# Altium schematic symbol library PowerPCB.SchLib: 56 symbols (part 2 of 2)
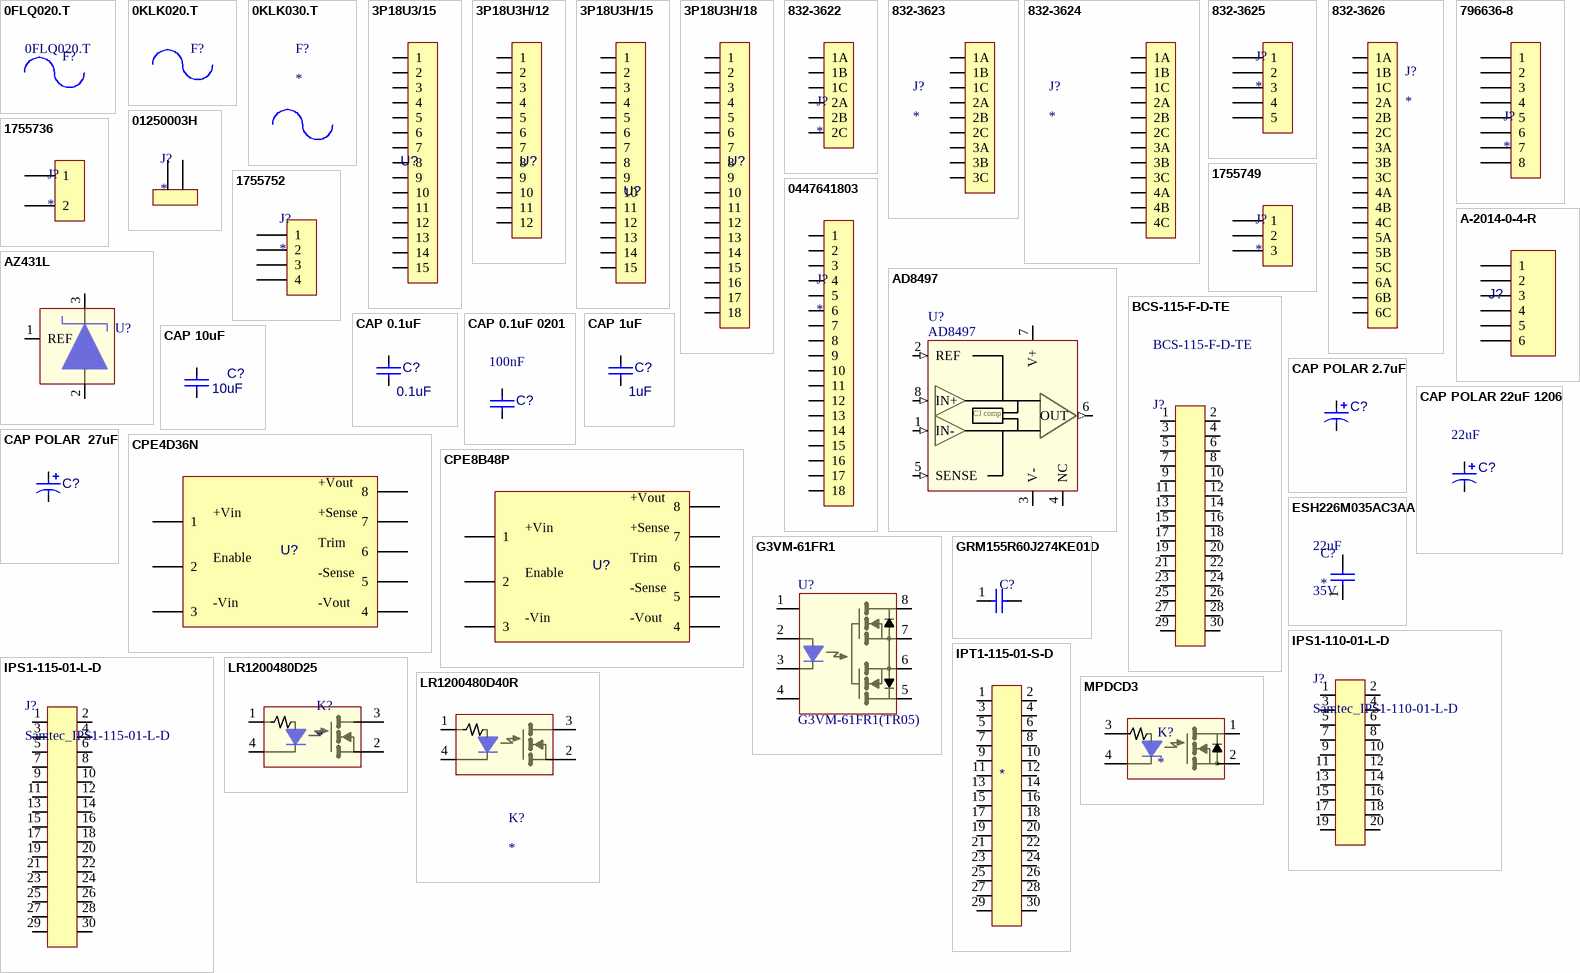
[diagram p2: symbols 0FLQ020.T to MPDCD3]

## CAP POLAR  27uF
designator C?, comment ?  (value not drawn)
CAP ALUM 27UF 20% 35V SMD; Manufacturer: Nichicon; Manufacturer Part Number: UUD1V270MCL1GS; _Verified Footprint: .mfr-pn? footprint?; _Verified Symbol: .mfr-pn?; Life (Hours): 2000Hour; Ripple Current: 230mA; Leakage Current: 9.45uA; Impedance: 440mR; _Verified BOM: .mfr-pn?; Supplier 1: Digi-Key; Supplier Part Number 1: 493-2285-1-ND; RoHS: Yes; Category: Aluminum Electrolytic Capacitors; Stock 1: 3272; Pricing 1: 1=0.43000, 10=0.30500, 25=0.26080, 100=0.20110, 250=0.17128, 500=0.14894 (USD); Case/Package: Radial; Number of Pins: 2; Min Operating Temperature: -55°C; Max Operating Temperature: 105°C; Package Quantity: 1000; Tolerance: 20%; Voltage Rating (DC): 35V; Packaging: Tape and Reel; Capacitance: 27uF; Voltage Rating: 35V; Termination: SMD/SMT; Diameter: 6.3mm; Length: 5.8mm; Height: 5.8mm; Height - Seated (Max): 0.228inch; Radiation Hardening: No; Lead Free: Lead Free; ComponentLink1URL: https://datasheet.ciiva.com/97/e-ud-97009.pdf?src-supplier=Digi-Key; ComponentLink1Description: https://datasheet.ciiva.com/97/e-ud-97009.pdf?src-supplier=Digi-Key; ComponentLink2URL: https://datasheet.ciiva.com/97/e-ud-97010.pdf?src-supplier=Digi-Key; ComponentLink2Description: https://datasheet.ciiva.com/97/e-ud-97010.pdf?src-supplier=Digi-Key; ComponentLink3URL: https://datasheet.ciiva.com/97/e-ud-97011.pdf?src-supplier=Digi-Key; ComponentLink3Description: https://datasheet.ciiva.com/97/e-ud-97011.pdf?src-supplier=Digi-Key; ComponentLink4URL: https://datasheet.ciiva.com/11686/e-ud-11686278.pdf?src-supplier=Avnet; ComponentLink4Description: https://datasheet.ciiva.com/11686/e-ud-11686278.pdf?src-supplier=Avnet; ComponentLink5URL: https://datasheet.ciiva.com/17525/e-ud-17525994.pdf?src-supplier=Avnet+Europe; ComponentLink5Description: https://datasheet.ciiva.com/17525/e-ud-17525994.pdf?src-supplier=Avnet+Europe; ComponentLink6URL: https://datasheet.ciiva.com/16513/e-ud-16513052.pdf?src-supplier=Future+Electronics; ComponentLink6Description: https://datasheet.ciiva.com/16513/e-ud-16513052.pdf?src-supplier=Future+Electronics
simulation model CAP (Capacitor)
footprint CAP_6.3X5.8
pins: 1, 2

## CPE4D36N
designator U?  (value not drawn)
Isolated Module DC DC Converter 1 Output 24V    4A 18V - 72V Input; Manufacturer: Semiconductor Circuits, Inc.; Manufacturer Part Number: CPE4D36N; Supplier 1: Digi-Key; RoHS: No; Category: Board Mount Modules; Stock 1: 37
footprint CPE4D36N (24V 4A 18-72VIN 8TH NEG ENB)
pins: 1, 2, 3, 4, 5, 6, 7, 8
text: +Vout; +Vin; +Sense; Trim; Enable; -Sense; -Vin; -Vout

## CPE8B48P
designator U?  (value not drawn)
Isolated Module DC DC Converter 1 Output 12V    8A 36V - 75V Input; Manufacturer: Semiconductor Circuits, Inc.; Manufacturer Part Number: CPE8B48P; Supplier 1: Digi-Key; RoHS: No; Category: Board Mount Modules
footprint CPE4D36N (24V 4A 18-72VIN 8TH NEG ENB)
pins: 1, 2, 3, 4, 5, 6, 7, 8
text: +Vout; +Vin; +Sense; Trim; Enable; -Sense; -Vin; -Vout

## ESH226M035AC3AA
designator C?
KEMET         ESH226M035AC3AA            Electrolytic Capacitor, ESH Series, 22 F,  20%, 35 V, 5 mm, Radial Leaded; Life (Hours): 2000Hour; Voltage Rating (DC): 35V; Capacitance: 22uF; Ripple Current: 65mA; Supplier 1: Digi-Key; Manufacturer: KEMET; Manufacturer Part Number: ESH226M035AC3AA; RoHS: Yes; Category: Aluminum Electrolytic Capacitors; Stock 1: 3655; Pricing 1: 1=0.17000, 10=0.11600, 50=0.06940, 100=0.05850, 500=0.04004, 1000=0.03542, 2500=0.03388, 5000=0.03080 (USD); Mount: Through Hole; Case/Package: Radial; Min Operating Temperature: -40°C; Max Operating Temperature: 105°C; Termination: Radial; Tolerance: 20%; Voltage Rating: 35V; Package Quantity: 10000; Packaging: Bulk; Diameter: 5mm; Height: 11mm; Height - Seated (Max): 0.492inch; Lead Pitch: 2mm; Radiation Hardening: No; REACH SVHC: No SVHC; ComponentLink1URL: https://datasheet.ciiva.com/13471/kem-a4005-esh-217634-13471568.pdf?src-supplier=Mouser; ComponentLink1Description: https://datasheet.ciiva.com/13471/kem-a4005-esh-217634-13471568.pdf?src-supplier=Mouser; ComponentLink2URL: https://datasheet.ciiva.com/22627/1794402-22627020.pdf?src-supplier=Farnell; ComponentLink2Description: https://datasheet.ciiva.com/22627/1794402-22627020.pdf?src-supplier=Farnell; Supplier Part Number 1: 399-6563-ND
pins: 1, 2

## G3VM-61FR1
designator U?  Manufacturer Part Number: G3VM-61FR1(TR05)  (hidden comment: G3VM-61FR1)
SSR RELAY SPST-NO 5A 0-60V; Manufacturer: Omron; On-State Resistance: 50mR; Throw Configuration: SPST; Isolation Voltage: 2.5kV; Supplier 1: Digi-Key; Supplier Part Number 1: Z5867CT-ND; Stock 1: 11015; Pricing 1: 1=11.91, 10=11.162, 25=9.922, 50=9.426, 100=8.9298, 250=7.9376 (USD); Mount: Surface Mount; Case/Package: SMD/SMT; Number of Pins: 8; Packaging: Tape and Reel; Load Current: 5A; Termination: Gull Wing; Relay Type: Relay
footprint G3VM-61FR1 (SSR RELAY SPST-NO 5A 0-60V)
footprint SMD_8
pins: 1 NC, 2 A, 3 K, 4 NC, 5 D2, 6 S2, 7 S1, 8 D1

## GRM155R60J274KE01D
designator C?  (value not drawn)
Cap Ceramic 0.27uF 6.3V X5R 10% SMD 0402 85Â°C Paper T/R; Manufacturer: Murata; Manufacturer Part Number: GRM155R60J274KE01D; Capacitance: 270nF; Supplier 1: Digi-Key; RoHS: Yes; Category: Ceramic Capacitors; Stock 1: 34733; Pricing 1: 1=0.18000, 10=0.12500, 50=0.07520, 100=0.06350, 500=0.04342, 1000=0.03841, 2500=0.03674, 5000=0.03340 (USD); Mount: Surface Mount; Case/Package: 0402; Case Code (Metric): 1005; Case Code (Imperial): 0402; Min Operating Temperature: -55°C; Max Operating Temperature: 85°C; Tolerance: 10%; Packaging: Tape and Reel; Voltage Rating: 6.3V; Package Quantity: 10000; Voltage Rating (DC): 6.3V; Dielectric: X5R; Termination: SMD/SMT; Length: 1mm; Height: 0.5mm; Width: 0.02inch; Thickness: 0.022inch; Depth: 0.5mm; Radiation Hardening: No; ComponentLink1URL: https://datasheet.ciiva.com/11619/product-11619074.pdf?src-supplier=Avnet; ComponentLink1Description: https://datasheet.ciiva.com/11619/product-11619074.pdf?src-supplier=Avnet; ComponentLink2URL: https://datasheet.ciiva.com/6270/partnumbering-e-01-6270597.pdf?src-supplier=Digi-Key; ComponentLink2Description: https://datasheet.ciiva.com/6270/partnumbering-e-01-6270597.pdf?src-supplier=Digi-Key; ComponentLink3URL: https://datasheet.ciiva.com/6270/partnumbering-e-01-6270582.pdf?src-supplier=Digi-Key; ComponentLink3Description: https://datasheet.ciiva.com/6270/partnumbering-e-01-6270582.pdf?src-supplier=Digi-Key; ComponentLink4URL: https://datasheet.ciiva.com/6270/partnumbering-e-01-6270583.pdf?src-supplier=Digi-Key; ComponentLink4Description: https://datasheet.ciiva.com/6270/partnumbering-e-01-6270583.pdf?src-supplier=Digi-Key; Supplier Part Number 1: 490-6291-1-ND
pins: 1, 2

## IPS1-110-01-L-D
designator J?, comment Samtec_IPS1-110-01-L-D
.100" Mini Mate® Isolated Power Connector Socket Strip; Manufacturer 1: Samtec; Number of Contacts: 20; Gender: Receptacle; Number of Ports: 1; Max Voltage Rating (AC): 550V; Current Rating: 9A; Voltage Rating: 777V; Pitch: 2.54mm; ComponentLink1URL: https://datasheet.ciiva.com/16684/eng-cs-1308389-eurostyle-terminal-blocks-0607-16684060.pdf?src-supplier=Avnet+Europe; ComponentLink1Description: https://datasheet.ciiva.com/16684/eng-cs-1308389-eurostyle-terminal-blocks-0607-16684060.pdf?src-supplier=Avnet+Europe; ComponentLink2URL: https://datasheet.ciiva.com/794/eng-cd-796636-c6-794740.pdf?src-supplier=Digi-Key; ComponentLink2Description: https://datasheet.ciiva.com/794/eng-cd-796636-c6-794740.pdf?src-supplier=Digi-Key; ComponentLink3URL: https://datasheet.ciiva.com/9466/eng-cs-1308389-eurostyle-terminal-blocks-0607-9466933.pdf?src-supplier=Avnet; ComponentLink3Description: https://datasheet.ciiva.com/9466/eng-cs-1308389-eurostyle-terminal-blocks-0607-9466933.pdf?src-supplier=Avnet; ComponentLink4URL: https://datasheet.ciiva.com/16405/eng-ds-1-1773458-1-euro-style-qrg-0810-16405653.pdf?src-supplier=Future+Electronics; ComponentLink4Description: https://datasheet.ciiva.com/16405/eng-ds-1-1773458-1-euro-style-qrg-0810-16405653.pdf?src-supplier=Future+Electronics; ComponentLink5URL: https://datasheet.ciiva.com/30231/eng-cs-1308389-eurostyle-terminal-blocks-0607-30231015.pdf?src-supplier=Onlinecomponents.com; ComponentLink5Description: https://datasheet.ciiva.com/30231/eng-cs-1308389-eurostyle-terminal-blocks-0607-30231015.pdf?src-supplier=Onlinecomponents.com; ComponentLink6URL: https://datasheet.ciiva.com/25618/0900766b8114c2ef-25618045.pdf?src-supplier=RSComponents; ComponentLink6Description: https://datasheet.ciiva.com/25618/0900766b8114c2ef-25618045.pdf?src-supplier=RSComponents; ComponentLink7URL: https://datasheet.ciiva.com/16677/ipt1-16677673.pdf?src-supplier=Avnet+Europe; ComponentLink7Description: https://datasheet.ciiva.com/16677/ipt1-16677673.pdf?src-supplier=Avnet+Europe; Mount: Through Hole; Contact Plating: Gold; Contact Material: Bronze; Number of Terminals: 20; Housing Material: Polymer; Min Operating Temperature: -55°C; Max Operating Temperature: 125°C; Termination: Through Hole; Orientation: Straight; Packaging: Bulk; Number of Rows: 2; Length: 25.78mm; Depth: 4.95mm; REACH SVHC: No SVHC; ComponentLink8URL: https://datasheet.ciiva.com/25618/0900766b8114c2ef-25618044.pdf?src-supplier=RSComponents; ComponentLink8Description: https://datasheet.ciiva.com/25618/0900766b8114c2ef-25618044.pdf?src-supplier=RSComponents; ComponentLink9URL: https://datasheet.ciiva.com/16677/ipt1-16677916.pdf?src-supplier=Avnet+Europe; ComponentLink9Description: https://datasheet.ciiva.com/16677/ipt1-16677916.pdf?src-supplier=Avnet+Europe; Category: Connectors; Stock 1: 409; RoHS: Yes; Manufacturer Part Number 1: IPS1-110-01-L-D; Supplier Part Number 1: SAM9621-ND; Supplier 1: Digi-Key; Pricing 1: 1=3.33000, 10=3.19200, 100=2.66000, 500=2.26100, 1000=1.92850, 5000=1.72900 (USD)
footprint IPS1-110-01-L-D (Samtec 30 pos receptical)
pins: 1, 2, 3, 4, 5, 6, 7, 8, 9 101, 10 101, 11 101, 12 101, 13 101, 14 101, 15 101, 16 101, 17 101, 18 101, 19 101, 20 101

## IPS1-115-01-L-D
designator J?, comment Samtec_IPS1-115-01-L-D
CONN RCPT 30POS 0.1 GOLD PCB; Manufacturer 1: Samtec; Number of Contacts: 30; Gender: Receptacle; Number of Ports: 1; Max Voltage Rating (AC): 550V; Current Rating: 9A; Voltage Rating: 777V; Pitch: 2.54mm; ComponentLink1URL: https://datasheet.ciiva.com/16684/eng-cs-1308389-eurostyle-terminal-blocks-0607-16684060.pdf?src-supplier=Avnet+Europe; ComponentLink1Description: https://datasheet.ciiva.com/16684/eng-cs-1308389-eurostyle-terminal-blocks-0607-16684060.pdf?src-supplier=Avnet+Europe; ComponentLink2URL: https://datasheet.ciiva.com/794/eng-cd-796636-c6-794740.pdf?src-supplier=Digi-Key; ComponentLink2Description: https://datasheet.ciiva.com/794/eng-cd-796636-c6-794740.pdf?src-supplier=Digi-Key; ComponentLink3URL: https://datasheet.ciiva.com/9466/eng-cs-1308389-eurostyle-terminal-blocks-0607-9466933.pdf?src-supplier=Avnet; ComponentLink3Description: https://datasheet.ciiva.com/9466/eng-cs-1308389-eurostyle-terminal-blocks-0607-9466933.pdf?src-supplier=Avnet; ComponentLink4URL: https://datasheet.ciiva.com/16405/eng-ds-1-1773458-1-euro-style-qrg-0810-16405653.pdf?src-supplier=Future+Electronics; ComponentLink4Description: https://datasheet.ciiva.com/16405/eng-ds-1-1773458-1-euro-style-qrg-0810-16405653.pdf?src-supplier=Future+Electronics; ComponentLink5URL: https://datasheet.ciiva.com/30231/eng-cs-1308389-eurostyle-terminal-blocks-0607-30231015.pdf?src-supplier=Onlinecomponents.com; ComponentLink5Description: https://datasheet.ciiva.com/30231/eng-cs-1308389-eurostyle-terminal-blocks-0607-30231015.pdf?src-supplier=Onlinecomponents.com; Mount: Through Hole; Contact Plating: Gold; Contact Material: Bronze; Housing Material: Polymer; Number of Terminals: 30; Min Operating Temperature: -55°C; Max Operating Temperature: 125°C; Orientation: Straight; Termination: Solder; Packaging: Bulk; Number of Rows: 2; Length: 51.18mm; Depth: 4.95mm; Radiation Hardening: No; REACH SVHC: No SVHC; ComponentLink6URL: https://datasheet.ciiva.com/25618/0900766b8114c2ef-25618045.pdf?src-supplier=RSComponents; ComponentLink6Description: https://datasheet.ciiva.com/25618/0900766b8114c2ef-25618045.pdf?src-supplier=RSComponents; ComponentLink7URL: https://datasheet.ciiva.com/16677/ipt1-16677673.pdf?src-supplier=Avnet+Europe; ComponentLink7Description: https://datasheet.ciiva.com/16677/ipt1-16677673.pdf?src-supplier=Avnet+Europe; Supplier 1: Digi-Key; Supplier Part Number 1: SAM10594-ND; Manufacturer Part Number 1: IPS1-115-01-L-D; RoHS: Yes; Category: Connectors; Stock 1: 400; Pricing 1: 1=4.38000, 10=4.20000, 100=3.50000, 500=2.97500, 1000=2.53750, 5000=2.27500 (USD)
footprint IPS1-115-01-L-D (Samtec 30 pos receptical)
pins: 1, 2, 3, 4, 5, 6, 7, 8, 9 101, 10 101, 11 101, 12 101, 13 101, 14 101, 15 101, 16 101, 17 101, 18 101, 19 101, 20 101, 21 101, 22 101, 23 101, 24 101, 25 101, 26 101, 27 101, 28 101, 29 101, 30 101

## IPT1-115-01-S-D
designator *  (value not drawn)
SAMTEC         IPT1-115-01-S-D            Board-To-Board Connector, IPT1 Series, Through Hole, Header, 30 Contacts, 2.54 mm; Gender: Male; Number of Positions: 30; Connector Type: Male Pin; Number of Ports: 1; Max Voltage Rating (AC): 550V; Pitch: 2.54mm; Row Spacing: 0.1inch; Supplier 1: Digi-Key; Manufacturer: Samtec; Manufacturer Part Number: IPT1-115-01-S-D; RoHS: Yes; Category: Connectors; Stock 1: 80; Pricing 1: 1=5.58000, 10=5.35200, 100=4.46000, 500=3.79100, 1000=3.23350, 5000=2.89900 (USD); Mount: Through Hole; Contact Material: Bronze; Contact Plating: Gold; Color: Black; Housing Color: Black; Housing Material: Polymer; Number of Terminals: 30; Min Operating Temperature: -55°C; Max Operating Temperature: 125°C; Packaging: Rail/Tube; Number of Rows: 2; Orientation: Straight; Termination: Solder; Number of Contacts: 30; Length: 38.61mm; Depth: 5.08mm; Contact Mating Length: 0.155inch; Radiation Hardening: No; REACH SVHC: No SVHC; Lead Free: Lead Free; ComponentLink1URL: https://datasheet.ciiva.com/7997/320916-7997588.pdf?src-supplier=Element14; ComponentLink1Description: https://datasheet.ciiva.com/7997/320916-7997588.pdf?src-supplier=Element14; ComponentLink2URL: https://datasheet.ciiva.com/16677/ipt1-16677676.pdf?src-supplier=Avnet+Europe; ComponentLink2Description: https://datasheet.ciiva.com/16677/ipt1-16677676.pdf?src-supplier=Avnet+Europe; ComponentLink3URL: https://datasheet.ciiva.com/9443/ipt1-9443231.pdf?src-supplier=Avnet; ComponentLink3Description: https://datasheet.ciiva.com/9443/ipt1-9443231.pdf?src-supplier=Avnet; Supplier Part Number 1: SAM8106-ND
footprint IPT1-115-01-S-D (CONN HEADER VERT 30POS 2.54MM)
pins: 1, 2, 3, 4, 5, 6, 7, 8, 9 101, 10 101, 11 101, 12 101, 13 101, 14 101, 15 101, 16 101, 17 101, 18 101, 19 101, 20 101, 21 101, 22 101, 23 101, 24 101, 25 101, 26 101, 27 101, 28 101, 29 101, 30 101

## LR1200480D25
designator K?
RELAY SSR 25A 480VAC AC OUT PCB; Manufacturer: Crydom; Manufacturer Part Number: LR1200480D25; Input Current: 15mA; Capacitance: 8pF; Throw Configuration: SPST; Max Output Voltage: 530V; Isolation Voltage: 2.5kV; Approvals: UL,CE; Supplier 1: Digi-Key; RoHS: Yes; Category: Solid State Relays; Stock 1: 85; Pricing 1: 1=40.85000, 10=38.90000, 50=37.14000, 100=36.04020 (USD); Mount: Through Hole,PCB; Case/Package: Module; Number of Pins: 4; Min Operating Temperature: -30°C; Max Operating Temperature: 80°C; Package Quantity: 14; Termination: Solder; Load Current: 25A; Relay Type: Relay; Max Output Current: 25A; Packaging: Bulk; Current Rating: 25A; Voltage Rating (AC): 530V; Output Current: 25A; Length: 35.1mm; Height: 12.7mm; Width: 28.4mm; Radiation Hardening: No; Lead Free: Lead Free; ComponentLink1URL: https://datasheet.ciiva.com/4470/l-r-24960-4470576.pdf?src-supplier=Mouser; ComponentLink1Description: https://datasheet.ciiva.com/4470/l-r-24960-4470576.pdf?src-supplier=Mouser; ComponentLink2URL: https://datasheet.ciiva.com/15711/l-r-15711281.pdf?src-supplier=Onlinecomponents.com; ComponentLink2Description: https://datasheet.ciiva.com/15711/l-r-15711281.pdf?src-supplier=Onlinecomponents.com; ComponentLink3URL: https://datasheet.ciiva.com/2422/l-r-2422178.pdf?src-supplier=Digi-Key; ComponentLink3Description: https://datasheet.ciiva.com/2422/l-r-2422178.pdf?src-supplier=Digi-Key; ComponentLink4URL: https://datasheet.ciiva.com/14531/70130517-14531685.pdf?src-supplier=Allied+Electronics; ComponentLink4Description: https://datasheet.ciiva.com/14531/70130517-14531685.pdf?src-supplier=Allied+Electronics; Supplier Part Number 1: CC1928-ND
footprint LR1200480D_E (SSR RELAY SPST-NO)
pins: 1 D1, 2 S1, 3 K, 4 NC

## LR1200480D40R
designator K?
Relay, 0.15 to 40 A (RMS), 48 to 530 V (RMS) @ 47 to 63 Hz, 1200 Vpeak, PCB; Manufacturer: Crydom; Manufacturer Part Number: LR1200480D40R; Capacitance: 8pF; Current Rating: 40A; Voltage Rating (AC): 530V; Input Current: 11mA; Throw Configuration: SPST; Approvals: UL,CE; Isolation Voltage: 2.5kV; Output Current: 25A; RoHS: Yes; Category: Solid State Relays; Stock 1: 9; Pricing 1: 1=48.10000, 10=45.81000, 25=44.77000, 50=43.73000, 100=42.44000, 250=40.40000 (USD); Mount: Through Hole,PCB; Case/Package: Module; Number of Pins: 4; Min Operating Temperature: -30°C; Max Operating Temperature: 80°C; Package Quantity: 14; Max Output Current: 40A; Packaging: Bulk; Relay Type: Relay; Termination: Solder; Load Current: 40A; Max Output Voltage: 530V; Length: 35mm; Height: 6.3mm; Depth: 28.4mm; Lead Free: Lead Free; REACH SVHC: No SVHC; ComponentLink1URL: https://datasheet.ciiva.com/1668/l-r-1668999.pdf?src-supplier=Newark; ComponentLink1Description: https://datasheet.ciiva.com/1668/l-r-1668999.pdf?src-supplier=Newark; ComponentLink2URL: https://datasheet.ciiva.com/2423/l-r-2423900.pdf?src-supplier=Digi-Key; ComponentLink2Description: https://datasheet.ciiva.com/2423/l-r-2423900.pdf?src-supplier=Digi-Key; ComponentLink3URL: https://datasheet.ciiva.com/14534/70130517-14534726.pdf?src-supplier=Allied+Electronics; ComponentLink3Description: https://datasheet.ciiva.com/14534/70130517-14534726.pdf?src-supplier=Allied+Electronics; ComponentLink4URL: https://datasheet.ciiva.com/1526/l-r-1526711.pdf?src-supplier=Element14; ComponentLink4Description: https://datasheet.ciiva.com/1526/l-r-1526711.pdf?src-supplier=Element14; ComponentLink5URL: https://datasheet.ciiva.com/33114/lr1200480d40r-33114246.pdf?src-supplier=Today+Components; ComponentLink5Description: https://datasheet.ciiva.com/33114/lr1200480d40r-33114246.pdf?src-supplier=Today+Components; Stock 2: 85; Pricing 2: 1=40.85000, 10=38.90000, 50=37.14000, 100=36.04020 (USD); Width: 28.4mm; Radiation Hardening: No; ComponentLink6URL: https://datasheet.ciiva.com/4470/l-r-24960-4470576.pdf?src-supplier=Mouser; ComponentLink6Description: https://datasheet.ciiva.com/4470/l-r-24960-4470576.pdf?src-supplier=Mouser; ComponentLink7URL: https://datasheet.ciiva.com/15711/l-r-15711281.pdf?src-supplier=Onlinecomponents.com; ComponentLink7Description: https://datasheet.ciiva.com/15711/l-r-15711281.pdf?src-supplier=Onlinecomponents.com; ComponentLink8URL: https://datasheet.ciiva.com/2422/l-r-2422178.pdf?src-supplier=Digi-Key; ComponentLink8Description: https://datasheet.ciiva.com/2422/l-r-2422178.pdf?src-supplier=Digi-Key; ComponentLink9URL: https://datasheet.ciiva.com/14531/70130517-14531685.pdf?src-supplier=Allied+Electronics; ComponentLink9Description: https://datasheet.ciiva.com/14531/70130517-14531685.pdf?src-supplier=Allied+Electronics; Supplier 1: Mouser; Supplier Part Number 1: 558-LR1200480D40R
footprint LR1200480D_E (SSR RELAY SPST-NO)
pins: 1 D1, 2 S1, 3 K, 4 NC

## MPDCD3
designator K?
Relay SSR 32V DC-IN 3A 60V DC-OUT 4-Pin SIP; Manufacturer: Crydom; Manufacturer Part Number: MPDCD3; Insulation Resistance: 1GR; Throw Configuration: SPST; Min Supply Voltage (DC): 3V; Isolation Voltage: 4kV; Input Current: 2.6mA; Max Surge Current: 5A; Supplier 1: Newark; RoHS: Yes; Category: Solid State Relays; Stock 1: 91; Pricing 1: 1=18.73000, 5=18.73000, 10=18.73000, 25=18.73000, 50=18.73000, 100=18.73000 (USD); Mount: Through Hole,PCB; Case/Package: SIP; Number of Pins: 4; Min Operating Temperature: -40°C; Max Operating Temperature: 80°C; Operating Supply Voltage: 60V; Output Voltage: 60V; Load Current: 3A; Max Supply Voltage (DC): 60V; Max Voltage Rating (DC): 60V; Packaging: Bulk; Output Current: 3A; Termination: PC Pin; Current Rating: 3A; Voltage Rating (DC): 60V; Max Output Voltage: 60V; Package Quantity: 25; Max Output Current: 3A; Relay Type: Relay; Length: 43.1mm; Height: 25.4mm; Width: 25.4mm; Depth: 10.2mm; Radiation Hardening: No; Lead Free: Lead Free; REACH SVHC: No SVHC; ComponentLink1URL: https://datasheet.ciiva.com/20162/505085-da-en-01-20162242.pdf?src-supplier=Rapid+Electronics; ComponentLink1Description: https://datasheet.ciiva.com/20162/505085-da-en-01-20162242.pdf?src-supplier=Rapid+Electronics; ComponentLink2URL: https://datasheet.ciiva.com/1668/106101-1668601.pdf?src-supplier=Newark; ComponentLink2Description: https://datasheet.ciiva.com/1668/106101-1668601.pdf?src-supplier=Newark; ComponentLink3URL: https://datasheet.ciiva.com/17065/0900766b8021432d-17065997.pdf?src-supplier=Allied+Electronics; ComponentLink3Description: https://datasheet.ciiva.com/17065/0900766b8021432d-17065997.pdf?src-supplier=Allied+Electronics; ComponentLink4URL: https://datasheet.ciiva.com/33080/mpdcd3-33080154.pdf?src-supplier=Today+Components; ComponentLink4Description: https://datasheet.ciiva.com/33080/mpdcd3-33080154.pdf?src-supplier=Today+Components; ComponentLink5URL: https://datasheet.ciiva.com/15712/m-p-15712085.pdf?src-supplier=Onlinecomponents.com; ComponentLink5Description: https://datasheet.ciiva.com/15712/m-p-15712085.pdf?src-supplier=Onlinecomponents.com; ComponentLink6URL: https://datasheet.ciiva.com/1526/m-p-1526728.pdf?src-supplier=Element14; ComponentLink6Description: https://datasheet.ciiva.com/1526/m-p-1526728.pdf?src-supplier=Element14; ComponentLink7URL: https://datasheet.ciiva.com/2421/m-p-2421741.pdf?src-supplier=Digi-Key; ComponentLink7Description: https://datasheet.ciiva.com/2421/m-p-2421741.pdf?src-supplier=Digi-Key; ComponentLink8URL: https://datasheet.ciiva.com/14145/spmpserie-data-en-14145662.pdf?src-supplier=Distrelec; ComponentLink8Description: https://datasheet.ciiva.com/14145/spmpserie-data-en-14145662.pdf?src-supplier=Distrelec; Supplier Part Number 1: 37M4546
footprint RELAY_MP
pins: 1 D1, 2 S1, 3 K, 4 NC

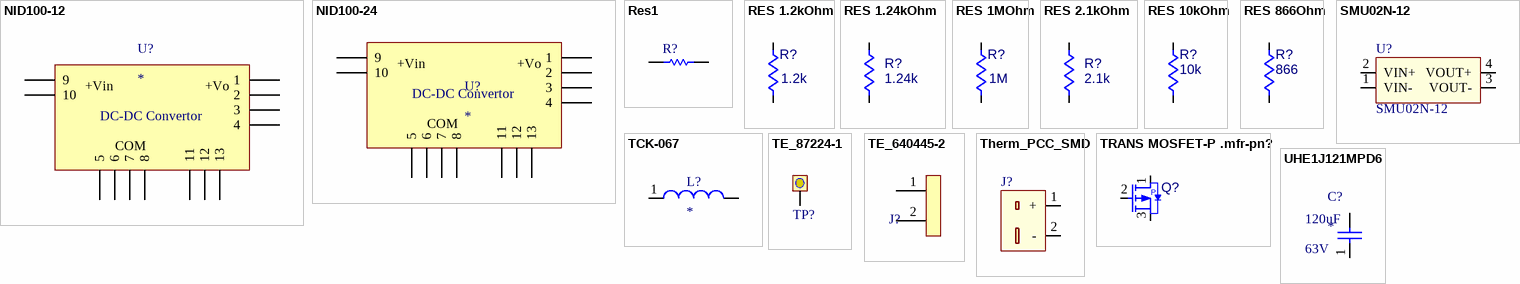
[diagram p1: symbols NID100-12 to UHE1J121MPD6]

## NID100-12
designator U?
Non-Isolated PoL Module DC DC Converter 1 Output 12V    7.5A 20V - 53V Input; Manufacturer: Mean Well; Manufacturer Part Number: NID100-12; Supplier 1: Mouser; RoHS: No; Category: Board Mount Modules; Stock 1: 93; Pricing 1: 1=15.64000, 10=15.18000, 25=14.67000, 50=14.37000, 100=13.79000, 250=13.34000 (USD); Supplier Part Number 1: 709-NID100-12
footprint NID100 (O/P +24V4.2A)
footprint NID100 (O/P +24V4.2A)
pins: 1, 2, 3, 4, 5, 6, 7, 8, 9, 10, 11, 12, 13
text: +Vin; +Vo; DC-DC Convertor; COM

## NID100-24
designator U?
Non-Isolated PoL Module DC DC Converter 1 Output 24V    4.2A 30V - 53V Input; Manufacturer: Mean Well; Manufacturer Part Number: NID100-24; Supplier 1: Mouser; RoHS: No; Category: Board Mount Modules; Stock 1: 147; Pricing 1: 1=15.64000, 10=15.18000, 25=14.67000, 50=14.37000, 100=13.79000, 250=13.34000, 500=12.87000, 1000=12.64000 (USD); Supplier Part Number 1: 709-NID100-24
footprint NID100 (O/P +24V4.2A)
pins: 1, 2, 3, 4, 5, 6, 7, 8, 9, 10, 11, 12, 13
text: +Vin; +Vo; DC-DC Convertor; COM

## Res1
designator R?
RES SMD 983 OHM 0.05% 0.3W 1206; Manufacturer: VPG Foil Resistors; Manufacturer Part Number: Y1625983R000A9R; Value: 983; Resistance: 983R; Max Power Dissipation: 300mW; Temperature Coefficient: 0.2ppm/°C; Published: 8-Jun-2000; LatestRevisionDate: 17-Jul-2002; LatestRevisionNote: Re-released for DXP Platform.; PackageReference: AXIAL-0.3; Publisher: Altium Limited; PackageDescription: Axial Device, Thru-Hole; 2 Leads; 0.3 in Pin Spacing; Supplier 1: Digi-Key; Supplier Part Number 1: Y1625983R000A9R-ND; RoHS: Yes; Category: Chip SMD Resistors; Pricing 1: 1000=6.17500 (USD); Case/Package: 1206; Min Operating Temperature: -55°C; Max Operating Temperature: 150°C; Package Quantity: 1000; Packaging: Tape and Reel; Tolerance: 0.05%; Features: Moisture Resistant; Composition: Metal Foil; Number of Terminations: 2; Length: 0.126inch; Height: 0.025inch; Width: 0.062inch; ComponentLink1URL: https://datasheet.ciiva.com/18610/vsmp-18610268.pdf?src-supplier=Digi-Key; ComponentLink1Description: https://datasheet.ciiva.com/18610/vsmp-18610268.pdf?src-supplier=Digi-Key
footprint AXIAL-0.3 (Axial Device, Thru-Hole; 2 Leads; 0.3 in Pin Spacing)
simulation model RESISTOR (Resistor)
signal-integrity model Res
pins: 1, 2

## RES 1.2kOhm
designator R?, comment 1.2k
Res Thick Film 1206 1.2K Ohm 1% 0.25W(1/4W) ±100ppm/C Molded SMD Automotive Punched T/R; Manufacturer: Panasonic; Manufacturer Part Number: ERJ-8ENF1201V; _Verified Footprint: .mfr-pn? footprint?; _Verified Symbol: .mfr-pn?; Resistance: 1.2kR; Power Rating: 250mW; Voltage Rating: 200V; Temperature Coefficient: 100ppm/°C; _Verified BOM: .mfr-pn?; Supplier 1: Digi-Key; Supplier Part Number 1: P1.20KFCT-ND; RoHS: Yes; Category: Chip SMD Resistors; Stock 1: 68396; Pricing 1: 1=0.10000, 10=0.08900, 100=0.03410, 1000=0.01500, 2500=0.01296 (USD); Mount: Surface Mount; Case/Package: 1206; Number of Pins: 2; Case Code (Metric): 3216; Case Code (Imperial): 1206; Contact Plating: Tin; Min Operating Temperature: -55°C; Max Operating Temperature: 155°C; Tolerance: 1%; Packaging: Tape and Reel; Composition: Thick Film; Package Quantity: 5000; Number of Terminations: 2; Termination: SMD/SMT; Military Standard: Not; Max Power Dissipation: 250mW; Voltage Rating (DC): 200V; Length: 3.2mm; Height: 0.6mm; Width: 0.063inch; Depth: 1.6mm; Radiation Hardening: No; REACH SVHC: No SVHC; ComponentLink1URL: https://datasheet.ciiva.com/16757/70260748-16757765.pdf?src-supplier=Allied+Electronics; ComponentLink1Description: https://datasheet.ciiva.com/16757/70260748-16757765.pdf?src-supplier=Allied+Electronics; ComponentLink2URL: https://datasheet.ciiva.com/30229/aoa0000ce2-30229318.pdf?src-supplier=Onlinecomponents.com; ComponentLink2Description: https://datasheet.ciiva.com/30229/aoa0000ce2-30229318.pdf?src-supplier=Onlinecomponents.com; ComponentLink3URL: https://datasheet.ciiva.com/7802/426256-7802461.pdf?src-supplier=Element14; ComponentLink3Description: https://datasheet.ciiva.com/7802/426256-7802461.pdf?src-supplier=Element14; ComponentLink4URL: https://datasheet.ciiva.com/24070/aoa0000ce2-24070838.pdf?src-supplier=Mouser; ComponentLink4Description: https://datasheet.ciiva.com/24070/aoa0000ce2-24070838.pdf?src-supplier=Mouser; ComponentLink5URL: https://datasheet.ciiva.com/22667/426256-22667927.pdf?src-supplier=Element14; ComponentLink5Description: https://datasheet.ciiva.com/22667/426256-22667927.pdf?src-supplier=Element14; ComponentLink6URL: https://datasheet.ciiva.com/9198/aoa0000ce2-9198665.pdf?src-supplier=Avnet; ComponentLink6Description: https://datasheet.ciiva.com/9198/aoa0000ce2-9198665.pdf?src-supplier=Avnet; ComponentLink7URL: https://datasheet.ciiva.com/17215/aoa0000ce2-17215022.pdf?src-supplier=Avnet+Europe; ComponentLink7Description: https://datasheet.ciiva.com/17215/aoa0000ce2-17215022.pdf?src-supplier=Avnet+Europe
simulation model RESISTOR (Resistor)
pins: 1, 2

## RES 1.24kOhm
designator R?, comment 1.24k
TE CONNECTIVITY         RP73PF2A1K24BTDF             SMD Chip Resistor, Thin Film, 1.24 kohm, 150 V, 0805 [2012 Metric], 250 mW,  0.1%, RN73 Series; _Verified Footprint: .mfr-pn? footprint?; _Verified Symbol: .mfr-pn?; Resistance: 1.24kR; Temperature Coefficient: 25ppm/°C; Power Rating: 250mW; Voltage Rating: 150V; _Verified BOM: .mfr-pn?; Supplier 1: Digi-Key; Supplier Part Number 1: A110552CT-ND; Manufacturer: TE Connectivity; Manufacturer Part Number: RP73PF2A1K24BTDF; RoHS: Yes; Category: Chip SMD Resistors; Stock 1: 1550; Pricing 1: 1=0.66000, 10=0.48500, 100=0.28230 (USD); Mount: Surface Mount; Case/Package: 0805; Case Code (Metric): 2012; Case Code (Imperial): 0805; Min Operating Temperature: -55°C; Max Operating Temperature: 155°C; Tolerance: 0.1%; Packaging: Tape and Reel; Composition: Thin Film; Number of Terminations: 2; Package Quantity: 1000; Voltage Rating (DC): 150V; Max Power Dissipation: 250mW; Termination: Solder; Length: 0.079inch; Height: 0.026inch; Width: 0.049inch; Depth: 1.25mm; REACH SVHC: No SVHC; ComponentLink1URL: https://datasheet.ciiva.com/18596/eng-ds-1773272-j-18596218.pdf?src-supplier=Digi-Key; ComponentLink1Description: https://datasheet.ciiva.com/18596/eng-ds-1773272-j-18596218.pdf?src-supplier=Digi-Key; ComponentLink2URL: https://datasheet.ciiva.com/18596/eng-ds-1773272-j-18596216.pdf?src-supplier=Digi-Key; ComponentLink2Description: https://datasheet.ciiva.com/18596/eng-ds-1773272-j-18596216.pdf?src-supplier=Digi-Key; ComponentLink3URL: https://datasheet.ciiva.com/7862/1635325-7862777.pdf?src-supplier=Element14; ComponentLink3Description: https://datasheet.ciiva.com/7862/1635325-7862777.pdf?src-supplier=Element14; ComponentLink4URL: https://datasheet.ciiva.com/46392/1635325-46392759.pdf?src-supplier=Element14; ComponentLink4Description: https://datasheet.ciiva.com/46392/1635325-46392759.pdf?src-supplier=Element14; ComponentLink5URL: https://datasheet.ciiva.com/18596/eng-ds-1773272-j-18596217.pdf?src-supplier=Digi-Key; ComponentLink5Description: https://datasheet.ciiva.com/18596/eng-ds-1773272-j-18596217.pdf?src-supplier=Digi-Key
simulation model RESISTOR (Resistor)
footprint 0805
pins: 1, 2

## RES 1MOhm
designator R?, comment 1M
General Type Carbon Film Resistor 1MOhm 1/6W 5% Axial Bulk; Manufacturer: Yageo; Manufacturer Part Number: CFR-12JB-52-1M; _Verified Footprint: .mfr-pn? footprint?; _Verified Symbol: .mfr-pn?; Power Rating: 167mW; Resistance: 1MR; Temperature Coefficient: -1500ppm/°C; _Verified BOM: .mfr-pn?; Supplier 1: Digi-Key; Supplier Part Number 1: 1.0MEBK-ND; RoHS: Yes; Category: Through-Hole Resistors; Stock 1: 3795; Pricing 1: 1=0.10000, 10=0.07500, 25=0.05160, 50=0.04020, 100=0.02870, 250=0.02240, 500=0.01780, 1000=0.01263, 5000=0.00976 (USD); Case/Package: Axial; Min Operating Temperature: -55°C; Max Operating Temperature: 155°C; Composition: Carbon Film; Package Quantity: 200; Packaging: Bulk; Tolerance: 5%; Number of Terminations: 2; Max Power Dissipation: 167mW; Length: 0.134inch; Lead Free: Lead Free; ComponentLink1URL: http://www.yageo.com/documents/recent/Yageo%20LR_CFR_2013.pdf?src-supplier=Digi-Key; ComponentLink1Description: http://www.yageo.com/documents/recent/Yageo%20LR_CFR_2013.pdf?src-supplier=Digi-Key; ComponentLink2URL: http://www.yageo.com/documents/recent/General%20Type_CFR.pdf?src-supplier=Future+Electronics; ComponentLink2Description: http://www.yageo.com/documents/recent/General%20Type_CFR.pdf?src-supplier=Future+Electronics
simulation model RESISTOR (Resistor)
footprint R300
pins: 1, 2

## RES 2.1kOhm
designator R?, comment 2.1k
SMD Chip Resistor, 1206 [3216 Metric], 2.1 kohm, ERJ8EN Series, 200 V, Thick Film, 250 mW; Manufacturer: Panasonic; Manufacturer Part Number: ERJ-8ENF2101V; _Verified Footprint: .mfr-pn? footprint?; _Verified Symbol: .mfr-pn?; Resistance: 2.1kR; Tolerance: 1%; Temperature Coefficient: 100ppm/°C; Power Rating: 250mW; Voltage Rating: 200V; _Verified BOM: .mfr-pn?; Supplier 1: Digi-Key; Supplier Part Number 1: P2.10KFCT-ND; RoHS: Yes; Category: Chip SMD Resistors; Stock 1: 64432; Pricing 1: 1=0.10000, 10=0.08500, 100=0.03290, 1000=0.01445, 2500=0.01248 (USD); Mount: Surface Mount; Case/Package: 1206; Weight: 0.000571oz; Case Code (Imperial): 1206; Case Code (Metric): 3216; Contact Plating: Tin; Min Operating Temperature: -55°C; Max Operating Temperature: 155°C; Packaging: Tape and Reel; Composition: Thick Film; Number of Terminations: 2; Voltage Rating (DC): 200V; Package Quantity: 1; Termination: SMD/SMT; Max Power Dissipation: 250mW; Features: Automotive AEC-Q200; Military Standard: Not; Length: 3.2mm; Height: 0.028inch; Width: 1.6mm; Depth: 1.6mm; REACH SVHC: No SVHC; Lead Free: Lead Free; ComponentLink1URL: https://datasheet.ciiva.com/22668/1678782-22668213.pdf?src-supplier=Element14; ComponentLink1Description: https://datasheet.ciiva.com/22668/1678782-22668213.pdf?src-supplier=Element14; ComponentLink2URL: https://datasheet.ciiva.com/22741/1678782-22741829.pdf?src-supplier=Element14; ComponentLink2Description: https://datasheet.ciiva.com/22741/1678782-22741829.pdf?src-supplier=Element14; ComponentLink3URL: https://datasheet.ciiva.com/22743/1678782-22743605.pdf?src-supplier=Farnell; ComponentLink3Description: https://datasheet.ciiva.com/22743/1678782-22743605.pdf?src-supplier=Farnell; ComponentLink4URL: https://datasheet.ciiva.com/9197/aoa0000ce2-9197415.pdf?src-supplier=Avnet; ComponentLink4Description: https://datasheet.ciiva.com/9197/aoa0000ce2-9197415.pdf?src-supplier=Avnet; ComponentLink5URL: https://datasheet.ciiva.com/30163/aoa0000ce2-30163673.pdf?src-supplier=Onlinecomponents.com; ComponentLink5Description: https://datasheet.ciiva.com/30163/aoa0000ce2-30163673.pdf?src-supplier=Onlinecomponents.com
simulation model RESISTOR (Resistor)
footprint 1206
pins: 1, 2

## RES 10kOhm
designator R?, comment 10k
VISHAY - CRCW060310K0FKEB - D11/CRCW0603 100 10K 1% ET5 E3; _Verified Footprint: .mfr-pn? footprint?; _Verified Symbol: .mfr-pn?; Resistance: 10kR; Power Rating: 100mW; Voltage Rating: 75V; Temperature Coefficient: 100ppm/°C; _Verified BOM: .mfr-pn?; Supplier 1: Newark; Supplier Part Number 1: 85Y8054; Supplier 2: Digi-Key; Supplier Part Number 2: 541-2978-1-ND; Manufacturer: Vishay; Manufacturer Part Number: CRCW060310K0FKEB; RoHS: Yes; Category: Chip SMD Resistors; Stock 2: 77406; Pricing 2: 1=0.10000, 10=0.03400, 100=0.01390, 1000=0.00623, 2500=0.00540, 5000=0.00447 (USD); Case/Package: 0603; Number of Pins: 2; Weight: 7.1E-05oz; Case Code (Imperial): 0603; Case Code (Metric): 1608; Contact Plating: Tin; Min Operating Temperature: -55°C; Max Operating Temperature: 155°C; Packaging: Tape and Reel; Package Quantity: 10000; Military Standard: Not; Tolerance: 1%; Composition: Thick Film; Voltage Rating (DC): 75V; Number of Terminations: 2; Max Power Dissipation: 100mW; Features: Automotive AEC-Q200; Length: 1.55mm; Height: 0.02inch; Depth: 0.85mm; Width: 0.033inch; Radiation Hardening: No; REACH SVHC: Unknown; Lead Free: Lead Free; ComponentLink1URL: https://datasheet.ciiva.com/5550/dcrcwe3-109170-5550939.pdf?src-supplier=Mouser; ComponentLink1Description: https://datasheet.ciiva.com/5550/dcrcwe3-109170-5550939.pdf?src-supplier=Mouser; ComponentLink2URL: https://datasheet.ciiva.com/8336/dcrcwe3-8336742.pdf?src-supplier=Avnet; ComponentLink2Description: https://datasheet.ciiva.com/8336/dcrcwe3-8336742.pdf?src-supplier=Avnet; ComponentLink3URL: https://datasheet.ciiva.com/16941/dcrcwe3-16941327.pdf?src-supplier=Avnet+Europe; ComponentLink3Description: https://datasheet.ciiva.com/16941/dcrcwe3-16941327.pdf?src-supplier=Avnet+Europe
simulation model RESISTOR (Resistor)
pins: 1, 2

## RES 866Ohm
designator R?, comment 866
TE Connectivity RP73 Series Thin Film Fixed Resistor 0603 Case 866 0.1% 0.166W 25ppm/C; Manufacturer Part Number: RP73PF1J866RBTDF; _Verified Footprint: .mfr-pn? footprint?; _Verified Symbol: .mfr-pn?; Resistance: 866R; Power Rating: 166mW; Temperature Coefficient: 25ppm/°C; Voltage Rating: 100V; Max Power Dissipation: 167mW; _Verified BOM: .mfr-pn?; Supplier 1: Digi-Key; Supplier Part Number 1: A110102CT-ND; Manufacturer: TE Connectivity; RoHS: Yes; Category: Chip SMD Resistors; Stock 1: 974; Pricing 1: 1=0.66000, 10=0.48500, 100=0.28230 (USD); Mount: Surface Mount; Case/Package: 0603; Case Code (Metric): 1608; Case Code (Imperial): 0603; Min Operating Temperature: -55°C; Max Operating Temperature: 155°C; Tolerance: 0.1%; Packaging: Tape and Reel; Composition: Thin Film; Number of Terminations: 2; Voltage Rating (DC): 100V; Package Quantity: 1000; Termination: Solder; Length: 0.061inch; Height: 0.022inch; Width: 0.031inch; Depth: 0.8mm; REACH SVHC: No SVHC; ComponentLink1URL: https://datasheet.ciiva.com/18601/eng-ds-1773272-j-18601499.pdf?src-supplier=Digi-Key; ComponentLink1Description: https://datasheet.ciiva.com/18601/eng-ds-1773272-j-18601499.pdf?src-supplier=Digi-Key; ComponentLink2URL: https://datasheet.ciiva.com/18601/eng-ds-1773272-j-18601500.pdf?src-supplier=Digi-Key; ComponentLink2Description: https://datasheet.ciiva.com/18601/eng-ds-1773272-j-18601500.pdf?src-supplier=Digi-Key; ComponentLink3URL: https://datasheet.ciiva.com/18601/eng-ds-1773272-j-18601501.pdf?src-supplier=Digi-Key; ComponentLink3Description: https://datasheet.ciiva.com/18601/eng-ds-1773272-j-18601501.pdf?src-supplier=Digi-Key
simulation model RESISTOR (Resistor)
footprint 0603R(1608)
pins: 1, 2

## SMU02N-12
designator U?
2 W, 21.6 -26.4 VDC Vin, Single Output, 12 VDC@0.167 A Dc-dc Converter; Manufacturer: Mean Well; ComponentLink1URL: http://www.farnell.com/datasheets/2787866.pdf?src-supplier=Farnell; ComponentLink1Description: http://www.farnell.com/datasheets/2787866.pdf?src-supplier=Farnell; ComponentLink2URL: https://www.recom-power.com/pdf/Econoline/RFM.pdf?src-supplier=Digi-Key; ComponentLink2Description: https://www.recom-power.com/pdf/Econoline/RFM.pdf?src-supplier=Digi-Key; ComponentLink3URL: http://www.farnell.com/datasheets/2787866.pdf?src-supplier=Newark; ComponentLink3Description: http://www.farnell.com/datasheets/2787866.pdf?src-supplier=Newark; Supplier 1: Mouser; Supplier Part Number 1: 709-SMU02N-12; Manufacturer Part Number: SMU02N-12; RoHS: No; Category: Board Mount Modules; Stock 1: 113; Pricing 1: 1=4.15000, 10=3.99000, 25=3.81000, 50=3.80000, 100=3.39000, 250=3.34000, 500=3.29000, 1000=3.24000 (USD)
footprint SMU02N-12
pins: 1 VIN-, 2 VIN+, 3 VOUT-, 4 VOUT+

## TCK-067
designator L?
Common Mode Chokes Dual 620uH 100kHz 7.5A 25mOhm DCR Thru-Hole; Manufacturer: Traco Power; Manufacturer Part Number: TCK-067; Number of Lines: 2; DC Resistance (DCR): 25mR; Voltage Rating (DC): 500V; Supplier 1: Allied Electronics; RoHS: Yes; Category: Uncategorized; Pricing 1: 20=4.80000, 100=4.27000, 200=3.95000, 500=3.67000 (USD); Mount: Through Hole; Min Operating Temperature: -40°C; Max Operating Temperature: 105°C; Max Current Rating: 7.5A; ComponentLink1URL: http://components.arrow.com/part/dataview/0323_04115123?src-supplier=Arrow+Europe; ComponentLink1Description: http://components.arrow.com/part/dataview/0323_04115123?src-supplier=Arrow+Europe; ComponentLink2URL: https://www.tracopower.com/products/tck067.pdf?src-supplier=Digi-Key; ComponentLink2Description: https://www.tracopower.com/products/tck067.pdf?src-supplier=Digi-Key; Supplier Part Number 1: 70546379
pins: 1, 2

## TE_87224-1
designator TP?  (value not drawn)
CONN HEADER VERT .100 1POS 15AU; Manufacturer: TE Connectivity AMP Connectors; Connector Type: Header, Unshrouded; Number of Positions: 1; Number of Positions Loaded: All; Pitch: 0.100" (2.54mm); Assy Instructions: Not fitted; RoHS: RoHS Compliant; Category: Connectors, Interconnects; Stock 1: 141; Pricing 1: 1=0.59, 25=0.5632, 50=0.474, 100=0.414, 500=0.395, 1000=0.326, 2500=0.296, 5000=0.286, 10000=0.259 (USD); Packaging: Bulk; Contact Type: Male Pin; Number of Rows: 1; Row Spacing: -; Contact Mating Length: 0.318" (8.08mm); Mounting Type: Through Hole; Termination: Solder; Fastening Type: -; Features: -; Contact Finish: Gold; Contact Finish Thickness: 15µin (0.38µm); Color: Black; ComponentLink1URL: http://www.te.com/commerce/DocumentDelivery/DDEController?Action=srchrtrv&DocNm=87224&DocType=Customer+Drawing&DocLang=English; ComponentLink1Description: http://www.te.com/commerce/DocumentDelivery/DDEController?Action=srchrtrv&DocNm=87224&DocType=Customer+Drawing&DocLang=English; Supplier 1: Digi-Key; Supplier Part Number 1: A26541-ND; Manufacturer Part Number: 87224-1; Manufacturer 1: TE Connectivity AMP Connectors; Manufacturer Part Number 1: 87224-1
footprint TE_87224-1 (CONN HEADER VERT .100 1POS 15AU)
pins: 1

## TE_640445-2
designator J?  (value not drawn)
CONN HEADER VERT 2POS 3.96MM; Manufacturer 1: AMP - TE CONNECTIVITY; Manufacturer Part Number 1: 640445-2; ComponentLink1URL: http://www.farnell.com/datasheets/2007275.pdf?src-supplier=Farnell; ComponentLink1Description: http://www.farnell.com/datasheets/2007275.pdf?src-supplier=Farnell; ComponentLink2URL: https://www.te.com/commerce/DocumentDelivery/DDEController?Action=srchrtrv&DocNm=640445&DocType=Customer+Drawing&DocLang=English&src-supplier=Digi-Key; ComponentLink2Description: https://www.te.com/commerce/DocumentDelivery/DDEController?Action=srchrtrv&DocNm=640445&DocType=Customer+Drawing&DocLang=English&src-supplier=Digi-Key; ComponentLink3URL: http://catalog.tycoelectronics.com/TE/bin/TE.Connect?C=1&PN=640445-2&M=BYPN&LG=1&I=13&src-supplier=Newark; ComponentLink3Description: http://catalog.tycoelectronics.com/TE/bin/TE.Connect?C=1&PN=640445-2&M=BYPN&LG=1&I=13&src-supplier=Newark; Supplier 1: Digi-Key; Supplier Part Number 1: A1971-ND; Stock 1: 17261; Pricing 1: 1=0.13000, 10=0.12600, 100=0.07800, 500=0.06458, 1000=0.05652, 5000=0.04844, 10000=0.04710 (USD); RoHS: No; Parameter 1: *; Supplier 2: Mouser; Supplier Part Number 2: 558-LR1200480D40R
pins: 1, 2

## Therm_PCC_SMD
designator J?, comment PCC_SMD_500  (value not drawn)
THERMOCOUPLE CONNECTOR, RTD, RECEPTACLE; Manufacturer: Omega; Manufacturer Part Number: PCC-SMD-20; Manufacturer Part Number 2: PCC-SMD-500; Manufacturer Part Number 3: PCC-SMD-1000; Manufacturer 1: Omega; Manufacturer Part Number 1: PCC-SMD-20
footprint PCC_SMD (Thermocouple connector)
pins: 1 +, 2 -

## TRANS MOSFET-P .mfr-pn?
designator Q?, comment ?  (value not drawn)
MOSFET N-CH 30V 10.9A 8-SOIC; Manufacturer: Vishay Siliconix; Manufacturer Part Number: SI4128DY-T1-E3; _Verified Footprint: .mfr-pn? footprint?; _Verified Symbol: .mfr-pn?; Element Configuration: Single; Drain to Source Resistance: 24mR; Gate to Source Voltage (Vgs): 20V; Max Power Dissipation: 5W; Fall Time: 10ns; Turn-Off Delay Time: 15ns; Input Capacitance: 435pF; Turn-On Delay Time: 5ns; Number of Channels: 1; _Verified BOM: .mfr-pn?; Parameter 1: *; Supplier 1: Digi-Key; Supplier Part Number 1: 742-SI4128DY-T1-E3CT-ND; RoHS: Yes; Category: MOSFETs; Stock 1: 2500; Pricing 1: 1=0.60000, 10=0.52800, 25=0.49600, 100=0.36000, 500=0.30080, 1000=0.25600 (USD); Mount: Surface Mount; Case/Package: SO; Number of Pins: 8; Weight: 0.006596oz; Min Operating Temperature: -55°C; Max Operating Temperature: 150°C; Continuous Drain Current (ID): 10.9A; Drain to Source Voltage (Vdss): 30V; Packaging: Tape and Reel; Rise Time: 10ns; Package Quantity: 2500; Rds On Max: 24mR; Length: 5mm; Height: 1.5mm; Width: 4mm; Radiation Hardening: No; ComponentLink1URL: https://datasheet.ciiva.com/4444/si4128dy-244466-4444768.pdf?src-supplier=Mouser; ComponentLink1Description: https://datasheet.ciiva.com/4444/si4128dy-244466-4444768.pdf?src-supplier=Mouser; ComponentLink2URL: https://datasheet.ciiva.com/944/si4128dy-944355.pdf?src-supplier=Digi-Key; ComponentLink2Description: https://datasheet.ciiva.com/944/si4128dy-944355.pdf?src-supplier=Digi-Key; ComponentLink3URL: https://datasheet.ciiva.com/26136/si4128dy-26136474.pdf?src-supplier=Avnet+Europe; ComponentLink3Description: https://datasheet.ciiva.com/26136/si4128dy-26136474.pdf?src-supplier=Avnet+Europe; ComponentLink4URL: https://datasheet.ciiva.com/11160/si4128dy-11160669.pdf?src-supplier=Avnet; ComponentLink4Description: https://datasheet.ciiva.com/11160/si4128dy-11160669.pdf?src-supplier=Avnet
simulation model NMOS (MOSFET-N)
pins: 1 D, 2 G, 3 S
text: P

## UHE1J121MPD6
designator C?
CAP ALUM 120UF 20% 63V RADIAL; Manufacturer: Nichicon; Manufacturer Part Number: UHE1J121MPD6; Dielectric Material: Aluminium; Lead/Base Style: Straight; ESR (Equivalent Series Resistance): 1.5R; Leakage Current: 75.6uA; Life (Hours): 7000Hour; Ripple Current: 400mA; Impedance: 310mR; Dissipation Factor: 0.09%; Lead Diameter: 0.6mm; Supplier 1: Digi-Key; RoHS: Yes; Category: Aluminum Electrolytic Capacitors; Stock 1: 2997; Pricing 1: 1=0.63000, 10=0.44400, 50=0.33600, 100=0.29260, 500=0.21672, 1000=0.18421, 2500=0.17338, 5000=0.16254 (USD); Mount: Through Hole; Case/Package: Radial; Min Operating Temperature: -40°C; Max Operating Temperature: 105°C; Termination: Radial; Voltage: 63V; Capacitance: 120uF; Tolerance: 20%; Package Quantity: 200; Voltage Rating: 63V; Voltage Rating (DC): 63V; Packaging: Bulk; Diameter: 10mm; Length: 16mm; Height: 16mm; Height - Seated (Max): 0.63inch; Lead Pitch: 5mm; Radiation Hardening: No; Lead Free: Lead Free; ComponentLink1URL: https://datasheet.ciiva.com/11782/0900766b80634fdd-11782957.pdf?src-supplier=RSComponents; ComponentLink1Description: https://datasheet.ciiva.com/11782/0900766b80634fdd-11782957.pdf?src-supplier=RSComponents; ComponentLink2URL: https://datasheet.ciiva.com/11685/e-he-11685501.pdf?src-supplier=Avnet; ComponentLink2Description: https://datasheet.ciiva.com/11685/e-he-11685501.pdf?src-supplier=Avnet; ComponentLink3URL: https://datasheet.ciiva.com/98/e-he-98775.pdf?src-supplier=Digi-Key; ComponentLink3Description: https://datasheet.ciiva.com/98/e-he-98775.pdf?src-supplier=Digi-Key; Supplier Part Number 1: 493-1637-ND
pins: 1, 2